# EAGLE library part USB-TYPE-C (library usb)
CONN RCPT USB3.1 TYPEC SMD R/A
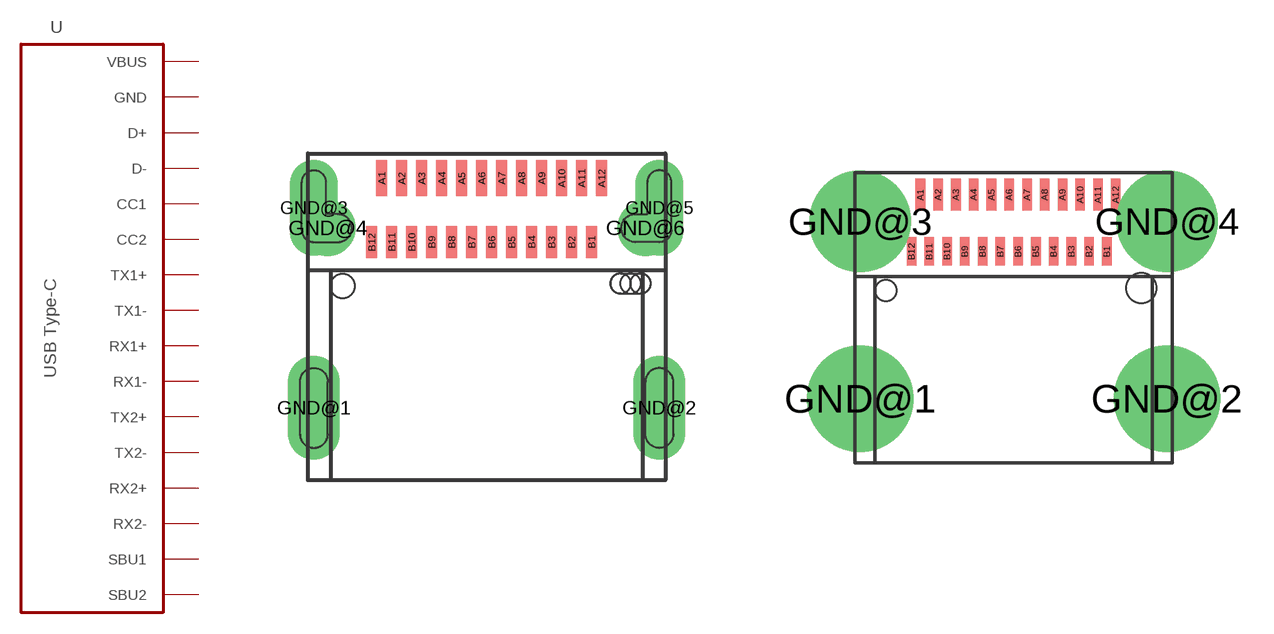
[diagram p0: symbol with the pads of DX07S024JJ3R1300; footprints DX07S024JJ3R1300, DX07S024JJ3R1300-CHEAP]

Designator prefix -

## USB-TYPE-CSPEC  [DX07S024JJ3R1300]
A1  GND
A2  TX1+
A3  TX1-  out
A4  VBUS  pwr
A5  CC1
A6  D+
A7  D-  pwr
A8  SBU1
A9  VBUS  pwr
A10  RX2-
A11  RX2+
A12  GND
B1  GND
B2  TX2+
B3  TX2-  pwr
B4  VBUS  pwr
B5  CC2
B6  D+
B7  D-  pwr
B8  SBU2  pwr
B9  VBUS  pwr
B10  RX1-
B11  RX1+  pwr
B12  GND
GND@1  GND
GND@2  GND
GND@3  GND
GND@4  GND
GND@5  GND
GND@6  GND

## USB-TYPE-CCHEAP  [DX07S024JJ3R1300-CHEAP]
A1  GND
A2  TX1+
A3  TX1-  out
A4  VBUS  pwr
A5  CC1
A6  D+
A7  D-  pwr
A8  SBU1
A9  VBUS  pwr
A10  RX2-
A11  RX2+
A12  GND
B1  GND
B2  TX2+
B3  TX2-  pwr
B4  VBUS  pwr
B5  CC2
B6  D+
B7  D-  pwr
B8  SBU2  pwr
B9  VBUS  pwr
B10  RX1-
B11  RX1+  pwr
B12  GND
GND@1  GND
GND@2  GND
GND@3  GND
GND@4  GND

## Footprint DX07S024JJ3R1300 (pad centres in mm)
CONN RCPT USB3.1 TYPEC SMD R/A
smd 0.27 x 0.9: A1 -2.625,2.7; A2 -2.125,2.7; A3 -1.625,2.7; A4 -1.125,2.7; A5 -0.625,2.7; A6 -0.125,2.7; A7 0.375,2.7; A8 0.875,2.7; A9 1.375,2.7; A10 1.875,2.7; A11 2.375,2.7; A12 2.875,2.7
smd 0.27 x 0.8: B1 2.625,1.1; B2 2.125,1.1; B3 1.625,1.1; B4 1.125,1.1; B5 0.625,1.1; B6 0.125,1.1; B7 -0.375,1.1; B8 -0.875,1.1; B9 -1.375,1.1; B10 -1.875,1.1; B11 -2.375,1.1; B12 -2.875,1.1
drill 0.7 pad 1.3 long: GND@1 -4.318,-3.048; GND@2 4.318,-3.048
drill 0.6 pad 1.2 long: GND@3 -4.318,1.952; GND@5 4.318,1.952
drill 0.7 pad 1.4: GND@4 -3.97,1.45; GND@6 3.97,1.45
hole 0.6 at -3.6,0
hole 0.5 at 3.35,0.065
hole 0.5 at 3.85,0.065
hole 0.5 at 3.6,0.065

## Footprint DX07S024JJ3R1300-CHEAP (pad centres in mm)
CONN RCPT USB3.1 TYPEC SMD R/A Uses round pads to allow for cheaper manufacturing This may or may not work!
smd 0.27 x 0.9: A1 -2.625,2.7; A2 -2.125,2.7; A3 -1.625,2.7; A4 -1.125,2.7; A5 -0.625,2.7; A6 -0.125,2.7; A7 0.375,2.7; A8 0.875,2.7; A9 1.375,2.7; A10 1.875,2.7; A11 2.375,2.7; A12 2.875,2.7
smd 0.27 x 0.8: B1 2.625,1.1; B2 2.125,1.1; B3 1.625,1.1; B4 1.125,1.1; B5 0.625,1.1; B6 0.125,1.1; B7 -0.375,1.1; B8 -0.875,1.1; B9 -1.375,1.1; B10 -1.875,1.1; B11 -2.375,1.1; B12 -2.875,1.1
drill 2: GND@1 -4.318,-3.048; GND@2 4.318,-3.048
drill 1.9: GND@3 -4.318,1.952; GND@4 4.318,1.952
hole 0.6 at -3.6,0
hole 0.85 at 3.6,0.065